# EAGLE library part TPS76701Q (library pixhawk2)
TPS76701Q 1A Adjustable LDO
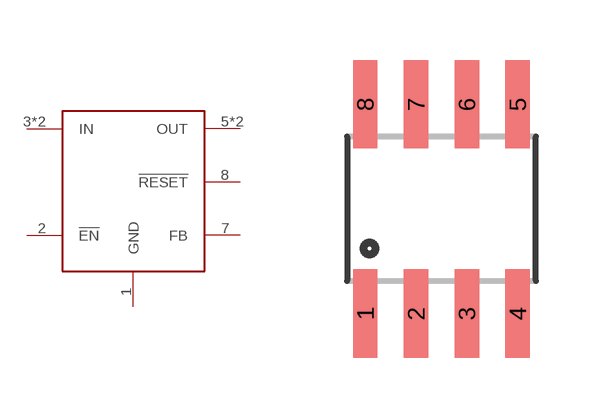
[diagram p76: symbol with the pads of SO08; footprint SO08]

Designator prefix -

## TPS76701QSO08  [SO08]
1  GND  pwr
2  !EN  in
3  IN  pwr
4  IN  pwr
5  OUT  pwr
6  OUT  pwr
7  FB
8  !RESET  oc

## Footprint SO08 (pad centres in mm)
Small Outline Package Fits JEDEC packages (narrow SOIC-8)
smd 0.61 x 2.21: 1 -1.905,-2.616; 2 -0.635,-2.616; 3 0.635,-2.616; 4 1.905,-2.616; 5 1.905,2.616; 6 0.635,2.616; 7 -0.635,2.616; 8 -1.905,2.616